# Altium footprint library BEL_08B0-1X1T-03-F.PcbLib: 1 footprints
Each footprint in its own frame and in the unit in brackets; x right, y up, seen from the top. Pads: shape width x height; smd on the part's side, far side on the other; paste and mask are expansions set on the pad; w line width, h text height; cw(c..) or ccw(c..) is an arc to the next point about the centre after c.
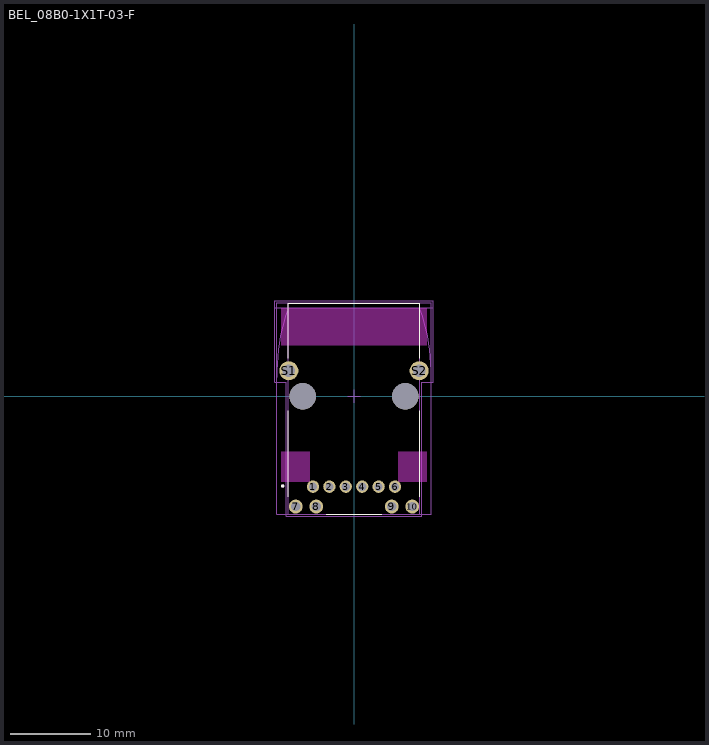
[diagram p0: the footprint, top view; thin cyan lines are the x and y axes]

## BEL_08B0-1X1T-03-F [mil]
height 531.1
pads (14):
  round 60 hole 40: 1(-200,-440) 2(-120,-440) 3(-40,-440) 4(40,-440) 5(120,-440) 6(200,-440)
  round 67.5 hole 45: 7(-284,-537) 8(-184,-537) 9(184,-537) 10(284,-537)
  round 93 hole 62: S1(-317.5,125) S2(317.5,125)
  round 128 hole 128 unplated: ""(-250,0) ""(250,0)
Top Overlay:
  circle w7.87: c-347.71,-436.67 r3.94
  lines w5: -321,-490 -321,-70 ; -321,185 -321,455 321,455 321,185 ; -135,-575 135,-575 ; 321,-490 321,-70
Keep-Out Layer:
  region: 355,-415 215,-415 215,-270 355,-270
  region: 355,-415 215,-415 215,-270 355,-270
  region: -215,-415 -355,-415 -355,-270 -215,-270
  region: 355,250 -355,250 -355,430 355,430
  region: -215,-415 -355,-415 -355,-270 -215,-270
  region: 355,250 -355,250 -355,430 355,430
Mechanical 7:
  lines w5: -385.83,433.07 385.83,433.07
Mechanical 13:
  circle w7.87: c-347.71,-436.67 r3.94
  lines w5: -375.9,92.23 cw(c587.26,109.04) -323.56,422.66 ; 323.56,422.66 cw(c-587.26,109.04) 375.9,92.23 ; -375.98,-574.8 -375.98,455.12 375.98,455.12 375.98,-574.8 -375.98,-574.8 ; -321,-575 -321,455 321,455 321,-575 -321,-575
Mechanical 15:
  lines w1.97: -386.02,68 -331,68 -331,-585 331,-585 331,68 386.02,68 386.02,465 -386.02,465 -386.02,68
  lines w5: -31.5,0 0,0 ; 0,-31.5 0,0 ; 0,31.5 0,0 ; 31.5,0 0,0
3D body "08B0-1X1T-03-F.STEP": height 606, standoff -130, extent -375.87,-575 375.87,455